# EAGLE library part IO-HAT (library eagleparts)
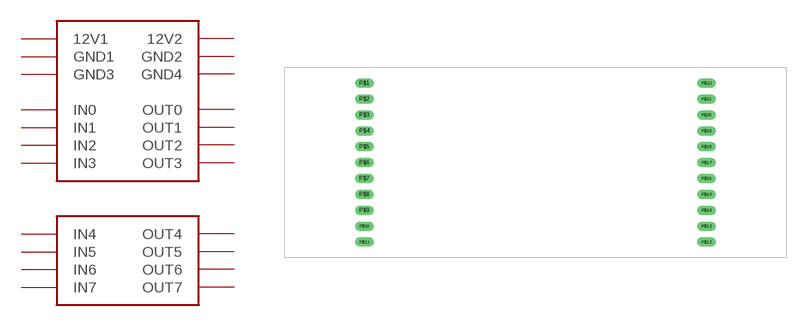
[diagram p3: symbol with the pads of IOBOARD; footprint IOBOARD]

Designator prefix X; gates G$1=IO-DB-1 G$2=IO-DB-2

## IO-HAT  [IOBOARD]
P$1  G$1:12V1  pwr
P$2  G$1:GND1  pwr
P$3  G$1:IN0  in
P$4  G$1:IN1  in
P$5  G$1:IN2  in
P$6  G$1:IN3  in
P$7  G$2:IN4  in
P$8  G$2:IN5  in
P$9  G$2:IN6  in
P$10  G$2:IN7  in
P$11  G$1:GND3  pwr
P$12  G$1:GND4  pwr
P$13  G$2:OUT7  oc
P$14  G$2:OUT6  oc
P$15  G$2:OUT5  oc
P$16  G$2:OUT4  oc
P$17  G$1:OUT3  oc
P$18  G$1:OUT2  oc
P$19  G$1:OUT1  oc
P$20  G$1:OUT0  oc
P$21  G$1:GND2  pwr
P$22  G$1:12V2  pwr

## Footprint IOBOARD (pad centres in mm)
drill 1.016 pad 1.524 long: P$1 12.7,27.94; P$2 12.7,25.4; P$3 12.7,22.86; P$4 12.7,20.32; P$5 12.7,17.78; P$6 12.7,15.24; P$7 12.7,12.7; P$8 12.7,10.16; P$9 12.7,7.62; P$10 12.7,5.08; P$11 12.7,2.54; P$12 67.31,2.54; P$13 67.31,5.08; P$14 67.31,7.62; P$15 67.31,10.16; P$16 67.31,12.7; P$17 67.31,15.24; P$18 67.31,17.78; P$19 67.31,20.32; P$20 67.31,22.86; P$21 67.31,25.4; P$22 67.31,27.94